# EAGLE library part ATMEGA328P (library audioint)
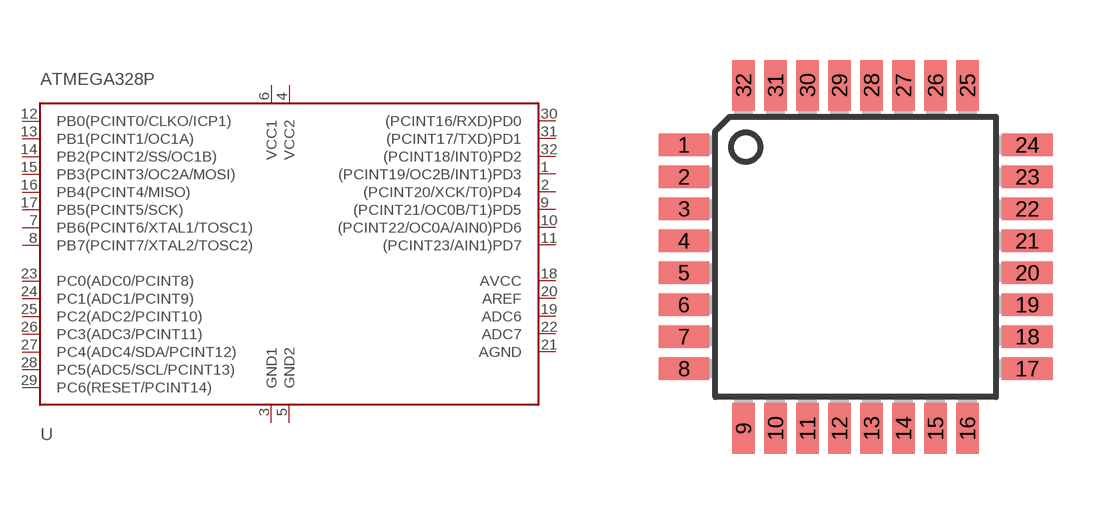
[diagram p21: symbol with the pads of 32-TQFP-NOMOD; footprint 32-TQFP-NOMOD]

Designator prefix -

## ATMEGA328P  [32-TQFP-NOMOD]
1  (PCINT19/OC2B/INT1)PD3
2  (PCINT20/XCK/T0)PD4
3  GND1
4  VCC2
5  GND2
6  VCC1
7  PB6(PCINT6/XTAL1/TOSC1)
8  PB7(PCINT7/XTAL2/TOSC2)
9  (PCINT21/OC0B/T1)PD5
10  (PCINT22/OC0A/AIN0)PD6
11  (PCINT23/AIN1)PD7
12  PB0(PCINT0/CLKO/ICP1)
13  PB1(PCINT1/OC1A)
14  PB2(PCINT2/SS/OC1B)
15  PB3(PCINT3/OC2A/MOSI)
16  PB4(PCINT4/MISO)
17  PB5(PCINT5/SCK)
18  AVCC
19  ADC6
20  AREF
21  AGND
22  ADC7
23  PC0(ADC0/PCINT8)
24  PC1(ADC1/PCINT9)
25  PC2(ADC2/PCINT10)
26  PC3(ADC3/PCINT11)
27  PC4(ADC4/SDA/PCINT12)
28  PC5(ADC5/SCL/PCINT13)
29  PC6(RESET/PCINT14)
30  (PCINT16/RXD)PD0
31  (PCINT17/TXD)PD1
32  (PCINT18/INT0)PD2

## Footprint 32-TQFP-NOMOD (pad centres in mm)
smd 1.27 x 0.559: 1 -4.293,2.8; 2 -4.293,2; 3 -4.293,1.2; 4 -4.293,0.4; 5 -4.293,-0.4; 6 -4.293,-1.2; 7 -4.293,-2; 8 -4.293,-2.8; 17 4.293,-2.8; 18 4.293,-2; 19 4.293,-1.2; 20 4.293,-0.4; 21 4.293,0.4; 22 4.293,1.2; 23 4.293,2; 24 4.293,2.8
smd 0.559 x 1.27: 9 -2.8,-4.293; 10 -2,-4.293; 11 -1.2,-4.293; 12 -0.4,-4.293; 13 0.4,-4.293; 14 1.2,-4.293; 15 2,-4.293; 16 2.8,-4.293; 25 2.8,4.293; 26 2,4.293; 27 1.2,4.293; 28 0.4,4.293; 29 -0.4,4.293; 30 -1.2,4.293; 31 -2,4.293; 32 -2.8,4.293